# Altium schematic symbol library Switches.SchLib: 6 symbols
Pins are listed as number, name and electrical type; pins without a type are passive.

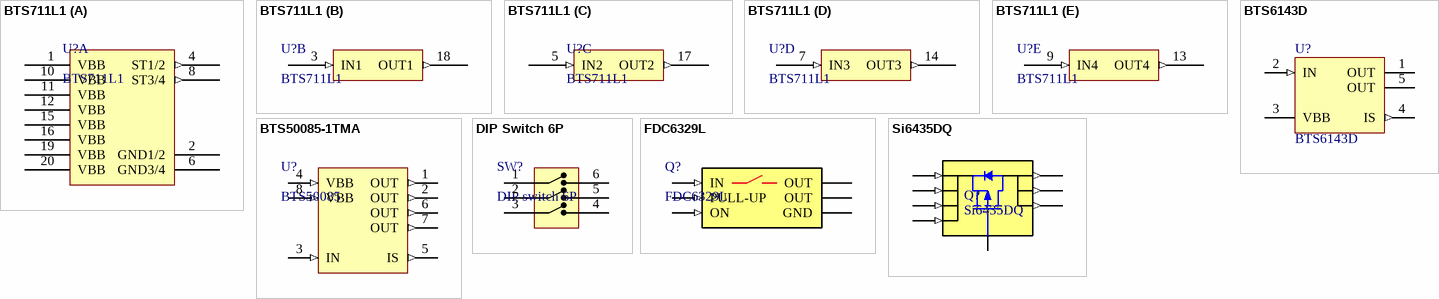
[diagram p0: symbols BTS711L1 to Si6435DQ]

## BTS711L1
designator U?
Smart High-Side Power Switch; Vbb: 43 V; Ron: 0.2 Ohm; I out: 1.9 A; I lim: 4 A
footprint PG-DSO-20 (SOP, 20-Leads, Body 12,80x7,60mm, Pitch 1,27mm, IPC Medium Density)
part A pins: 1 VBB (power), 2 GND1/2 (power), 4 ST1/2 (out), 6 GND3/4 (power), 8 ST3/4 (out), 10 VBB (power), 11 VBB (power), 12 VBB (power), 15 VBB (power), 16 VBB (power), 19 VBB (power), 20 VBB (power)
part B pins: 3 IN1 (in), 18 OUT1 (out)
part C pins: 5 IN2 (in), 17 OUT2 (out)
part D pins: 7 IN3 (in), 14 OUT3 (out)
part E pins: 9 IN4 (in), 13 OUT4 (out)

## BTS6143D
designator U?
PROFET Smart Highside Power Switch, 1 Channel, 10 A Load Current, -40 to 150 degC, PG-TO252-5-11, Reel, Green; Manufacturer: Infineon; Recommended Operating Voltage Min.: 5.5 V; RON(max) @ 150degreesC: 18 mOhm; toff (max): 500 us; Load Current (typ): 10 A; RON @ 25degreesC: 10 mOhm; Recommended Operating Voltage Max.: 38 V; Green: TRUE; Ptot (max): 59 W; Group: Automotive Qualified; Channels: 1; Packing: Reel; ComponentLink1URL: http://www.infineon.com/; PartNumber: BTS6143D; Mounting Technology: Surface Mount; ComponentLink2Description: Datasheet; ComponentLink3URL: http://www.infineon.com/dgdl/TLE7276-Data+Sheet-+v1_11.pdf?folderId=db3a304412b407950112b408e8c90004&fileId=db3a304412b407950112b436c53f66c8&sId=db3a30433db6f09f013dc0e43c0428c1; ComponentLink3Description: Package Specification; ComponentLink2URL: http://www.infineon.com/dgdl/BTS6143D_DS_v10.pdf?folderId=db3a304314dca389011537739e37155f&fileId=db3a3043183a95550118606a2705368e&location=en.Products.Automotive_ICs.Smart_High-_and_Low-Side_Switches.PROFET__-_Smart_High_Side_Switches.DATASHEET.BTS6143D_D; ComponentLink1Description: Manufacturer URL; PackageVersion: Nov-10; PackageDescription: 5-Pin Plastic (Green) Transistor Single Outline Package, 6.5 x 6.12 mm Body, 1.14 mm Pitch; Halogen-free: TRUE; DatasheetVersion: Rev. 1.0; PackageReference: PG-TO252-5-11; ton (max): 500 us
footprint ITO252-5-11_M (DPAK, 5-Leads, Body 6.5x6.12mm, Pitch 1.14mm, IPC Low Density)
pins: 1 OUT (hiz) "Output; output to the load; pin 1 and 5 must be externally shorted.", 2 IN (in) "Input; activates the power switch if shorted to ground.", 3 VBB (power) "Supply Voltage; positive power supply voltage; tab and pin 3 are internally shorted.", 4 IS (out) "Sense Output; Diagnostic feedback; provides at normal operation a sense current proportional to the load current; in case of overload, overtemperature and/or short circuit a defined current is provided.", 5 OUT (hiz) "Output; output to the load; pin 1 and 5 must be externally shorted."

## BTS50085-1TMA
designator U?, comment BTS50085
Smart Highside High Current Power Switch; Overvoltage protection: 70V; Output clamp: 62V; Operating voltage: 5.0 .. 58V; On-state resistance: 9 mOhm; Load current (ISO): 44A; Short circuit current limitation: 90A; Current sense ratio: 13000
footprint PG-TO220-7-4
pins: 1 OUT (out), 2 OUT (out), 3 IN (in), 4 VBB (in), 5 IS (out), 6 OUT (out), 7 OUT (out), 8 VBB (in)

## DIP Switch 6P
designator SW?, comment DIP switch 6P
footprint DIP Switch 6P
pins: 1, 2, 3, 4, 5, 6

## FDC6329L
designator Q?
2A Integrated Load Switch SuperSOT-6 SMD
footprint SuperSOT-6 (SOT23, 6-Leads, Body 2,92x2,84mm, Pitch 0,95mm, IPC Medium Density)
pins: 1 GND (power), 2 OUT (power), 3 OUT (power), 4 IN (in), 5 ON (in), 6 PULL-UP (in)

## Si6435DQ
designator Q?
4A P-Channel Enhancement-Mode MOSFET
footprint TSSOP8 Low profile (TSOP, 8-Leads, Body 3,00x4,40mm, Pitch 0,65mm, IPC Medium Density)
pins: 1 D (out), 2 S (in), 3 S (in), 4 G, 5 D (out), 6 S (in), 7 S (in), 8 D (out)